# Altium footprint library RES.PcbLib: 14 footprints
Each footprint in its own frame and in the unit in brackets; x right, y up, seen from the top. Pads: shape width x height; smd on the part's side, far side on the other; paste and mask are expansions set on the pad; w line width, h text height; cw(c..) or ccw(c..) is an arc to the next point about the centre after c.
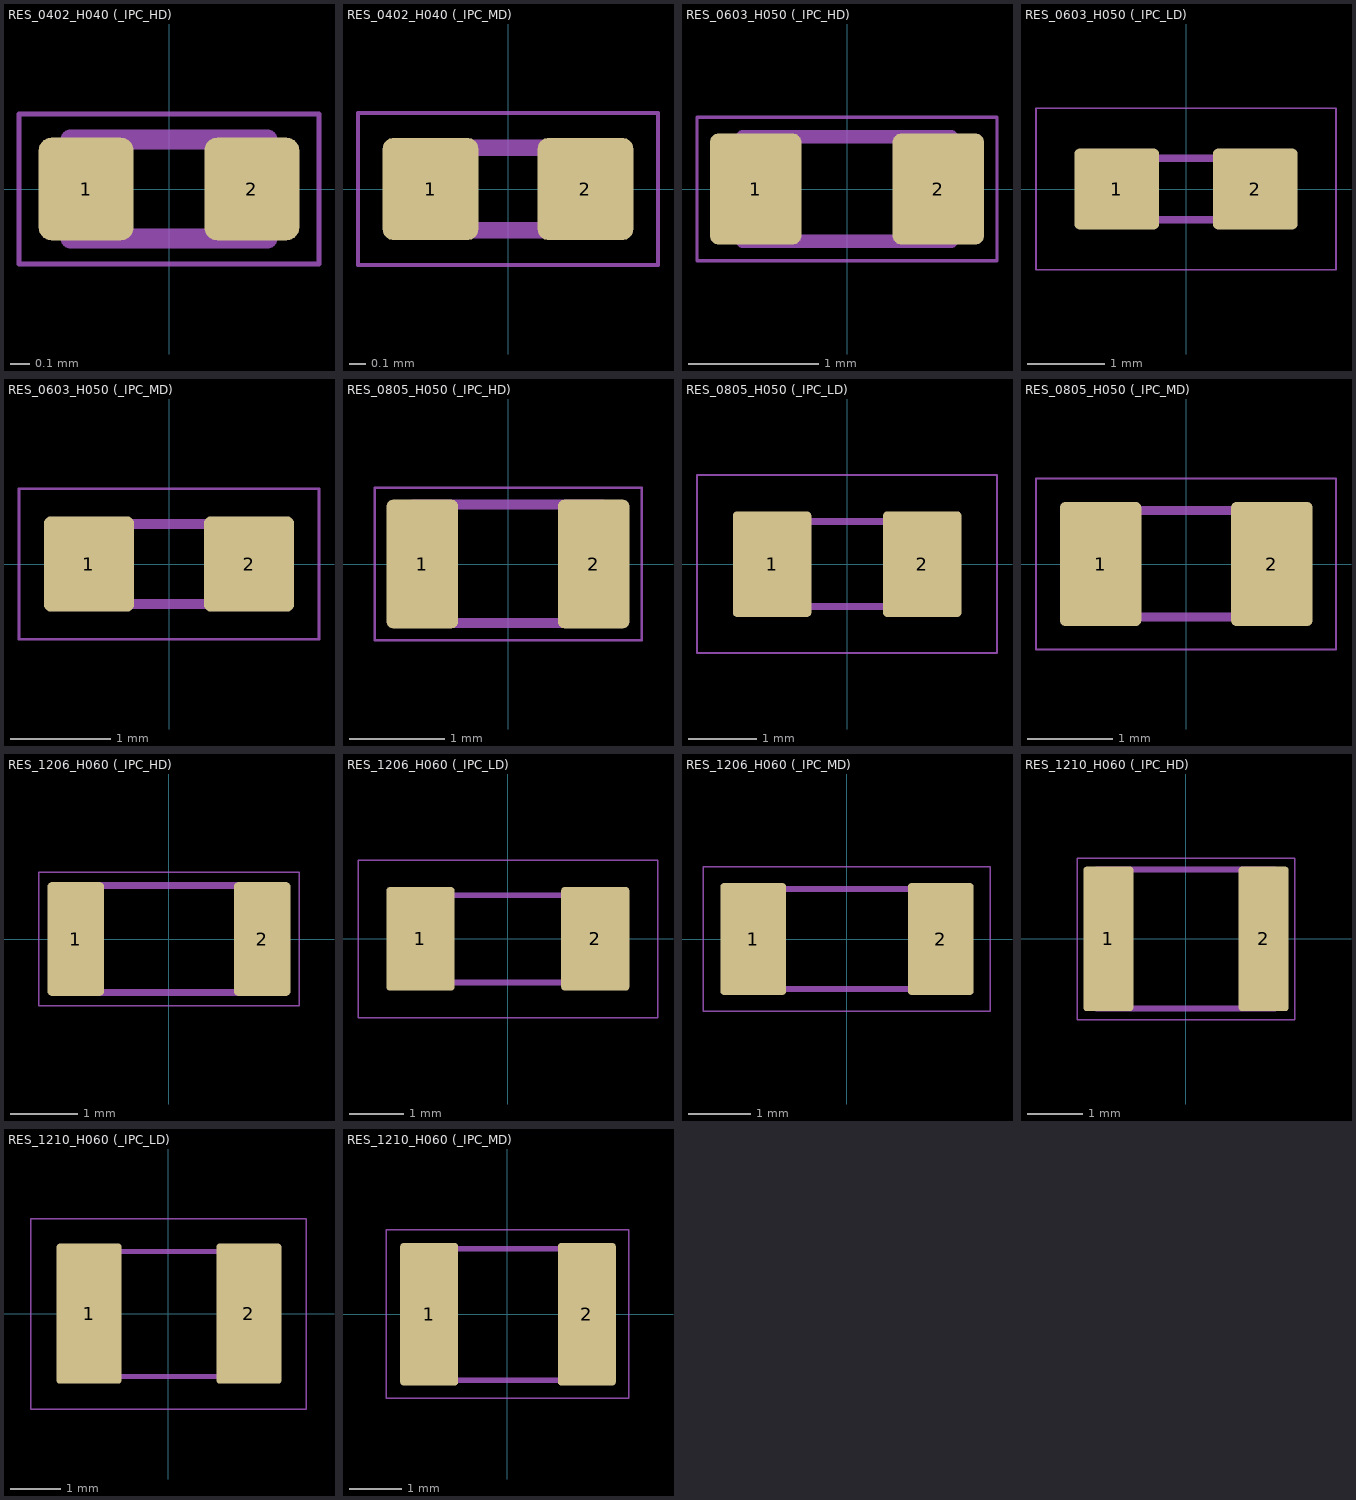
[diagram p0: the footprints below, top view; thin cyan lines are the x and y axes]

## RES_0402_H040 (_IPC_HD) [mm]
height 0.4
pads (2):
  rrect26% 0.48x0.52 smd paste+0 mask+0.05: 1(-0.42,0) 2(0.42,0)
Mechanical 13:
  lines w0.102: -0.5,-0.25 -0.5,0.25 0.5,0.25 0.5,-0.25 -0.5,-0.25
Mechanical 15:
  lines w0.025: -0.76,-0.38 -0.76,0.38 0.76,0.38 0.76,-0.38 -0.76,-0.38
3D body "RESC-0402.stp": height 0.4, standoff 0, extent -0.525,-0.275 0.525,0.275

## RES_0402_H040 (_IPC_MD) [mm]
height 0.4
pads (2):
  rrect22% 0.58x0.62 smd paste+0 mask+0.1: 1(-0.47,0) 2(0.47,0)
Mechanical 13:
  lines w0.102: -0.5,-0.25 0.5,-0.25 0.5,0.25 -0.5,0.25 -0.5,-0.25
Mechanical 15:
  lines w0.025: -0.91,-0.46 0.91,-0.46 0.91,0.46 -0.91,0.46 -0.91,-0.46
3D body "RESC-0402.stp": height 0.4, standoff 0, extent -0.525,-0.275 0.525,0.275

## RES_0603_H050 (_IPC_HD) [mm]
height 0.5
pads (2):
  rrect18% 0.7x0.85 smd paste+0 mask+0.1: 1(-0.7,0) 2(0.7,0)
Mechanical 1:
  lines w0.025: -1.15,-0.55 -1.15,0.55 1.15,0.55 1.15,-0.55 -1.15,-0.55
Mechanical 2:
  lines w0.102: -0.8,-0.4 -0.8,0.4 0.8,0.4 0.8,-0.4 -0.8,-0.4
3D body "RESC-0603.stp": height 0.55, standoff 0, extent -0.85,-0.45 0.85,0.45

## RES_0603_H050 (_IPC_LD) [mm]
height 0.5
pads (2):
  rrect12% 1.1x1.05 smd paste+0 mask+0.1: 1(-0.9,0) 2(0.9,0)
Mechanical 1:
  lines w0.025: -1.95,-1.05 1.95,-1.05 1.95,1.05 -1.95,1.05 -1.95,-1.05
Mechanical 2:
  lines w0.102: -0.8,-0.4 0.8,-0.4 0.8,0.4 -0.8,0.4 -0.8,-0.4
3D body "RESC-0603.stp": height 0.55, standoff 0, extent -0.85,-0.45 0.85,0.45

## RES_0603_H050 (_IPC_MD) [mm]
height 0.5
pads (2):
  rrect14% 0.9x0.95 smd paste+0 mask+0.1: 1(-0.8,0) 2(0.8,0)
Mechanical 13:
  lines w0.102: -0.8,-0.4 0.8,-0.4 0.8,0.4 -0.8,0.4 -0.8,-0.4
Mechanical 15:
  lines w0.025: -1.5,-0.75 1.5,-0.75 1.5,0.75 -1.5,0.75 -1.5,-0.75
3D body "RESC-0603.stp": height 0.55, standoff 0, extent -0.85,-0.45 0.85,0.45

## RES_0805_H050 (_IPC_HD) [mm]
height 0.5
pads (2):
  rrect17% 0.75x1.35 smd paste+0 mask+0.1: 1(-0.9,0) 2(0.9,0)
Mechanical 1:
  lines w0.025: -1.4,-0.8 1.405,-0.8 1.405,0.8 -1.4,0.8 -1.4,-0.8
Mechanical 2:
  lines w0.102: -1,-0.62 0.995,-0.62 0.995,0.625 -1,0.625 -1,-0.62
3D body "RESC-0805.stp": height 0.6, standoff 0, extent -1.05,-0.675 1.05,0.675

## RES_0805_H050 (_IPC_LD) [mm]
height 0.5
pads (2):
  rrect11% 1.15x1.55 smd paste+0 mask+0.1: 1(-1.1,0) 2(1.1,0)
Mechanical 1:
  lines w0.025: -2.2,-1.3 2.195,-1.3 2.195,1.305 -2.2,1.305 -2.2,-1.3
Mechanical 2:
  lines w0.102: -1,-0.62 0.995,-0.62 0.995,0.625 -1,0.625 -1,-0.62
3D body "RESC-0805.stp": height 0.6, standoff 0, extent -1.05,-0.675 1.05,0.675

## RES_0805_H050 (_IPC_MD) [mm]
height 0.5
pads (2):
  rrect13% 0.95x1.45 smd paste+0 mask+0.1: 1(-1,0) 2(1,0)
Mechanical 13:
  lines w0.102: -1,-0.62 -1,0.625 0.995,0.625 0.995,-0.62 -1,-0.62
Mechanical 15:
  lines w0.025: -1.755,-1 -1.755,1 1.75,1 1.75,-1 -1.755,-1
3D body "RESC-0805.stp": height 0.6, standoff 0, extent -1.05,-0.675 1.05,0.675

## RES_1206_H060 (_IPC_HD) [mm]
height 0.6
pads (2):
  rrect15% 0.85x1.7 smd paste+0 mask+0.1: 1(-1.39,0) 2(1.4,0)
Mechanical 5:
  lines w0.102: -1.6,-0.8 -1.6,0.8 1.605,0.8 1.605,-0.8 -1.6,-0.8
Mechanical 15:
  lines w0.025: -1.945,-1 -1.945,1 1.955,1 1.955,-1 -1.945,-1
3D body "RESC-1206.stp": height 0.65, standoff 0, extent -1.65,-0.85 1.65,0.85

## RES_1206_H060 (_IPC_LD) [mm]
height 0.6
pads (2):
  rrect10% 1.25x1.9 smd paste+0 mask+0.1: 1(-1.6,0) 2(1.605,0)
Mechanical 1:
  lines w0.025: -2.745,-1.45 -2.745,1.445 2.755,1.445 2.755,-1.45 -2.745,-1.45
Mechanical 2:
  lines w0.102: -1.6,-0.8 -1.6,0.8 1.605,0.8 1.605,-0.8 -1.6,-0.8
3D body "RESC-1206.stp": height 0.65, standoff 0, extent -1.65,-0.85 1.65,0.85

## RES_1206_H060 (_IPC_MD) [mm]
height 0.6
pads (2):
  rrect12% 1.05x1.8 smd paste+0 mask+0.1: 1(-1.495,0) 2(1.505,0)
Mechanical 13:
  lines w0.102: -1.6,-0.8 1.605,-0.8 1.605,0.8 -1.6,0.8 -1.6,-0.8
Mechanical 15:
  lines w0.025: -2.295,-1.155 2.295,-1.155 2.295,1.155 -2.295,1.155 -2.295,-1.155
3D body "RESC-1206.stp": height 0.65, standoff 0, extent -1.65,-0.85 1.65,0.85

## RES_1210_H060 (_IPC_HD) [mm]
height 0.6
pads (2):
  rrect14% 0.9x2.6 smd paste+0 mask+0.1: 1(-1.39,0) 2(1.4,0)
Mechanical 1:
  lines w0.025: -1.945,-1.45 1.955,-1.45 1.955,1.445 -1.945,1.445 -1.945,-1.45
Mechanical 2:
  lines w0.102: -1.6,-1.25 1.605,-1.25 1.605,1.245 -1.6,1.245 -1.6,-1.25
3D body "RESC-1210.stp": height 0.6, standoff 0, extent -1.65,-1.35 1.65,1.35

## RES_1210_H060 (_IPC_LD) [mm]
height 0.6
pads (2):
  rrect10% 1.3x2.8 smd paste+0 mask+0.1: 1(-1.585,0.005) 2(1.605,0.005)
Mechanical 1:
  lines w0.025: -2.755,-1.905 2.75,-1.905 2.75,1.9 -2.755,1.9 -2.755,-1.905
Mechanical 2:
  lines w0.102: -1.6,-1.25 1.605,-1.25 1.605,1.245 -1.6,1.245 -1.6,-1.25
3D body "RESC-1210.stp": height 0.6, standoff 0, extent -1.65,-1.35 1.65,1.35

## RES_1210_H060 (_IPC_MD) [mm]
height 0.6
pads (2):
  rrect11% 1.1x2.7 smd paste+0 mask+0.1: 1(-1.485,0) 2(1.505,0)
Mechanical 13:
  lines w0.102: -1.6,-1.25 -1.6,1.245 1.605,1.245 1.605,-1.25 -1.6,-1.25
Mechanical 15:
  lines w0.025: -2.3,-1.59 -2.3,1.6 2.3,1.6 2.3,-1.59 -2.3,-1.59
3D body "RESC-1210.stp": height 0.6, standoff 0, extent -1.65,-1.35 1.65,1.35